# EAGLE library part SPI_FLASH (library Fugu_LSI)
QUAD SERIAL FLASH MEMORY WITH MULTI-I/O SPI
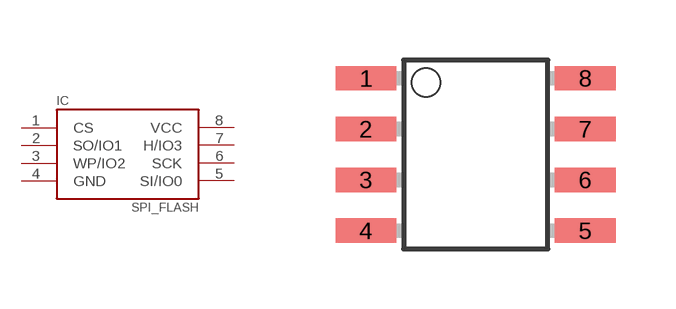
[diagram p9: symbol with the pads of SO-8; footprint SO-8]

Designator prefix IC

## SPI_FLASH  [SO-8]
1  CS
2  SO/IO1
3  WP/IO2
4  GND
5  SI/IO0
6  SCK
7  H/IO3
8  VCC

## Footprint SO-8 (pad centres in mm)
SO 8 small outline
smd 1.524 x 0.61: 1 -2.743,1.905; 2 -2.743,0.635; 3 -2.743,-0.635; 4 -2.743,-1.905; 5 2.743,-1.905; 6 2.743,-0.635; 7 2.743,0.635; 8 2.743,1.905